# EAGLE library part 1-794681-2 (library con-amp)
Micro MATE-N-LOK Connectors grid 1.5mm Dual Row Through Hole Vertical Metal Through Hole Holddowns Source: ENG_CD_794681_E.pdf
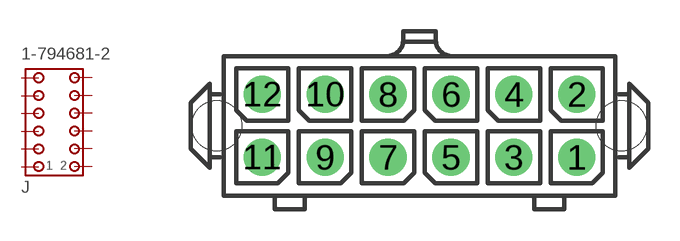
[diagram p160: symbol with the pads of 1-794681-2; footprint 1-794681-2]

Designator prefix J

## 1-794681-2  [1-794681-2]
1  1  pas
2  2  pas
3  3  pas
4  4  pas
5  5  pas
6  6  pas
7  7  pas
8  8  pas
9  9  pas
10  10  pas
11  11  pas
12  12  pas

## Footprint 1-794681-2 (pad centres in mm)
Micro MATE-N-LOK Connectors grid 1.5mm Dual Row Through Hole Vertical Metal Through Hole Holddowns Source: ENG_CD_794681_E.pdf
drill 1 pad 1.778: 1 7.5,-1.5; 2 7.5,1.5; 3 4.5,-1.5; 4 4.5,1.5; 5 1.5,-1.5; 6 1.5,1.5; 7 -1.5,-1.5; 8 -1.5,1.5; 9 -4.5,-1.5; 10 -4.5,1.5; 11 -7.5,-1.5; 12 -7.5,1.5
hole 2.4 at 9.63,0
hole 2.4 at -9.67,0